# EAGLE library part 2X03 (library PiB_connectors)
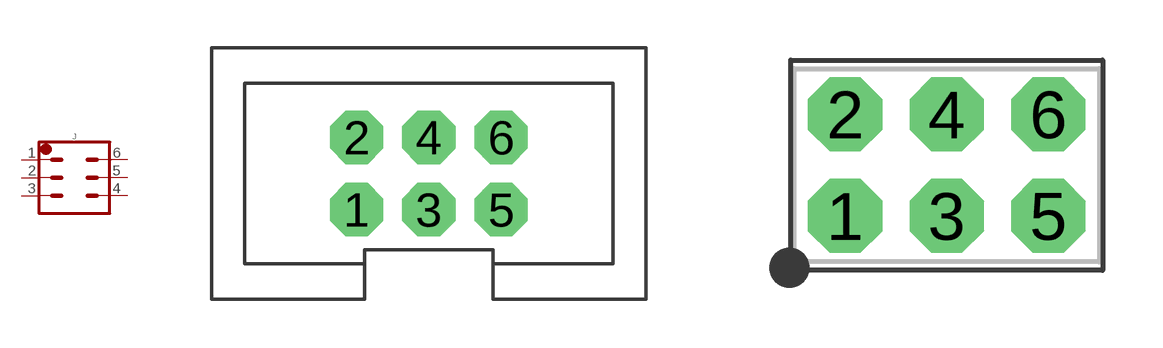
[diagram p8: symbol with the pads of 2X03-VERT-MALE_SHROUDED; footprints 2X03-VERT-MALE_SHROUDED, HDRV6W64P254_2X3_762X483X838B]

Designator prefix J

## 2X03_PTH_VERT-MALE_SHROUDED-4 (DATASHEET: http://multimedia.3m.com/mws/media/22504O/3mtm-100-in-loprof-hdr-100x-100strt-ra-4-wall-ts0818.pdf; DIST: Digikey; DISTLINK: https://www.digikey.com/products/en?keywords=3M15451-ND; DISTPN: 3M15451-ND; MFR: 3M; MPN: 30306-6002HB)  [2X03-VERT-MALE_SHROUDED]
1  1  pas
2  2  pas
3  3  pas
4  4  pas
5  5  pas
6  6  pas

## 2X03_PTH_VERT_MALE_2.54MM (DATASHEET: https://cdn.amphenol-icc.com/media/wysiwyg/files/drawing/67996.pdf; DIST: Digikey; DISTLINK: https://www.digikey.com/products/en?keywords=609-3234-ND; DISTPN: 609-3234-ND; MFR: Amphenol FCI; MPN: 67997-206HLF; VALUE: PTH VERT MALE)  [HDRV6W64P254_2X3_762X483X838B]
Pads as for 2X03-VERT-MALE_SHROUDED

## Footprint 2X03-VERT-MALE_SHROUDED (pad centres in mm)
drill 1.1 pad 1.88 octagon: 1 -2.54,-1.27; 2 -2.54,1.27; 3 0,-1.27; 4 0,1.27; 5 2.54,-1.27; 6 2.54,1.27

## Footprint HDRV6W64P254_2X3_762X483X838B (pad centres in mm)
Double-row, 6-pin Pin Header (Male) Straight, 2.54 mm (0.10 in) row pitch, 2.54 mm (0.10 in) col pitch, 5.84 mm mating length, 7.62 X 4.83 X 8.38 mm body Double-row (2X3), 6-pin Pin Header (Male) Straight package with 2.54 mm (0.10 in) row pitch, 2.54 mm (0.10 in) col pitch, 0.64 mm lead width, 3.05 mm tail length and 5.84 mm mating length with overall size 7.62 X 4.83 X 8.38 mm, pin pattern - clockwise from top left
drill 1 pad 1.85 octagon: 1 0,0; 2 0,2.54; 3 2.54,0; 4 2.54,2.54; 5 5.08,0; 6 5.08,2.54